# EAGLE library part FM116B (library gone)
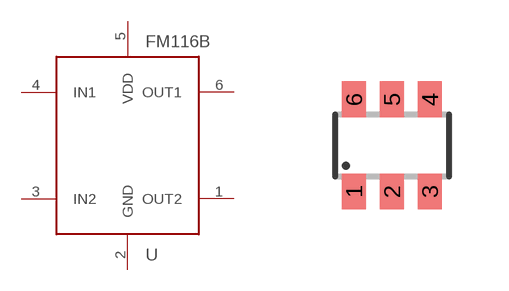
[diagram p6: symbol with the pads of SOT23-6; footprint SOT23-6]

Designator prefix -

## FM116B  [SOT23-6]
1  OUT2
2  GND
3  IN2
4  IN1
5  VDD
6  OUT1

## Footprint SOT23-6 (pad centres in mm)
Small Outline Transistor 6 lead
smd 0.6 x 0.9: 1 -0.95,-1.15; 2 0,-1.15; 3 0.95,-1.15; 4 0.95,1.15; 5 0,1.15; 6 -0.95,1.15